# Altium schematic symbol library TPS7A4701RGWT.SchLib: 1 symbol
Pins are listed as number, name and electrical type; pins without a type are passive.

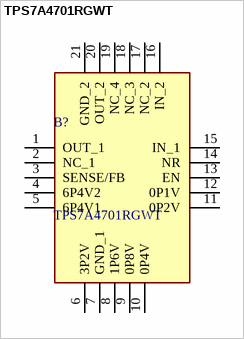
[diagram p0: symbol TPS7A4701RGWT]

## TPS7A4701RGWT
designator B?
TEXAS INSTRUMENTS - TPS7A4701RGWT - LDO, ADJ, 1.4V-34V, 1A, VQFN-20; Geometry.Height: 1mm; Manufacturer_Name: Texas Instruments; Manufacturer_Part_Number: TPS7A4701RGWT; Mouser Part Number: 595-TPS7A4701RGWT; Mouser Price/Stock: https://www.mouser.co.uk/ProductDetail/Texas-Instruments/TPS7A4701RGWT?qs=2YfbMANv380lIzdxzN9K4Q%3D%3D; Arrow Part Number: TPS7A4701RGWT; Arrow Price/Stock: https://www.arrow.com/en/products/tps7a4701rgwt/texas-instruments?utm_currency=USD&region=nac; Datasheet Link: http://www.ti.com/lit/gpn/tps7a47
footprint QFN65P500X500X100-21N-D
pins: 1 OUT_1, 2 NC_1, 3 SENSE/FB, 4 6P4V2, 5 6P4V1, 6 3P2V, 7 GND_1, 8 1P6V, 9 0P8V, 10 0P4V, 11 0P2V, 12 0P1V, 13 EN, 14 NR, 15 IN_1, 16 IN_2, 17 NC_2, 18 NC_3, 19 NC_4, 20 OUT_2, 21 GND_2